# EAGLE library part SPARKFUN-CONNECTORS_M13 (library Moteino)
13-pin single row .1" header
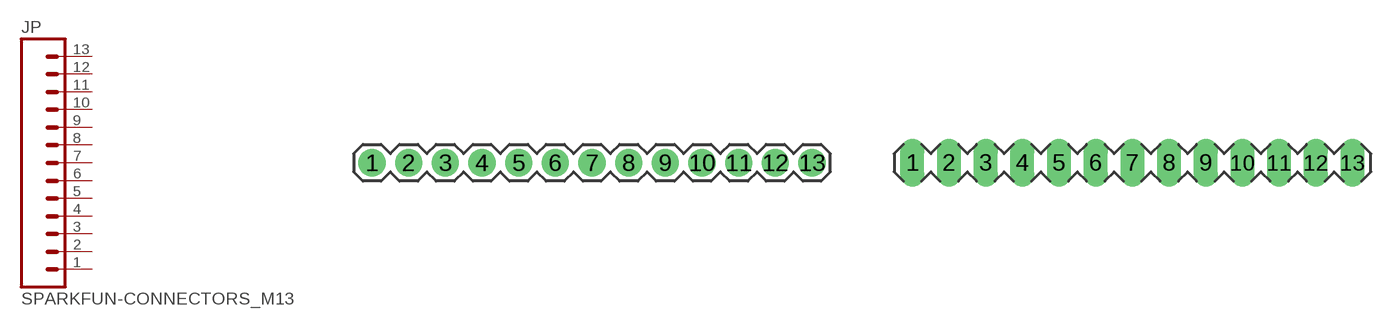
[diagram p5: symbol with the pads of SPARKFUN-CONNECTORS_1X13; footprints SPARKFUN-CONNECTORS_1X13, SPARKFUN-CONNECTORS_1X13-LONGPADS]

Designator prefix JP

## SPARKFUN-CONNECTORS_M13  [SPARKFUN-CONNECTORS_1X13]
1  1  pas
2  2  pas
3  3  pas
4  4  pas
5  5  pas
6  6  pas
7  7  pas
8  8  pas
9  9  pas
10  10  pas
11  11  pas
12  12  pas
13  13  pas

## SPARKFUN-CONNECTORS_M13LONGPADS  [SPARKFUN-CONNECTORS_1X13-LONGPADS]
Pads as for SPARKFUN-CONNECTORS_1X13

## Footprint SPARKFUN-CONNECTORS_1X13 (pad centres in mm)
drill 1.016 pad 1.88: 1 0,0; 2 2.54,0; 3 5.08,0; 4 7.62,0; 5 10.16,0; 6 12.7,0; 7 15.24,0; 8 17.78,0; 9 20.32,0; 10 22.86,0; 11 25.4,0; 12 27.94,0; 13 30.48,0

## Footprint SPARKFUN-CONNECTORS_1X13-LONGPADS (pad centres in mm)
drill 1.118 long: 1 0,0; 2 2.54,0; 3 5.08,0; 4 7.62,0; 5 10.16,0; 6 12.7,0; 7 15.24,0; 8 17.78,0; 9 20.32,0; 10 22.86,0; 11 25.4,0; 12 27.94,0; 13 30.48,0